# Altium integrated library NSC Simple PLD.IntLib: 508 symbols (part 8 of 10)
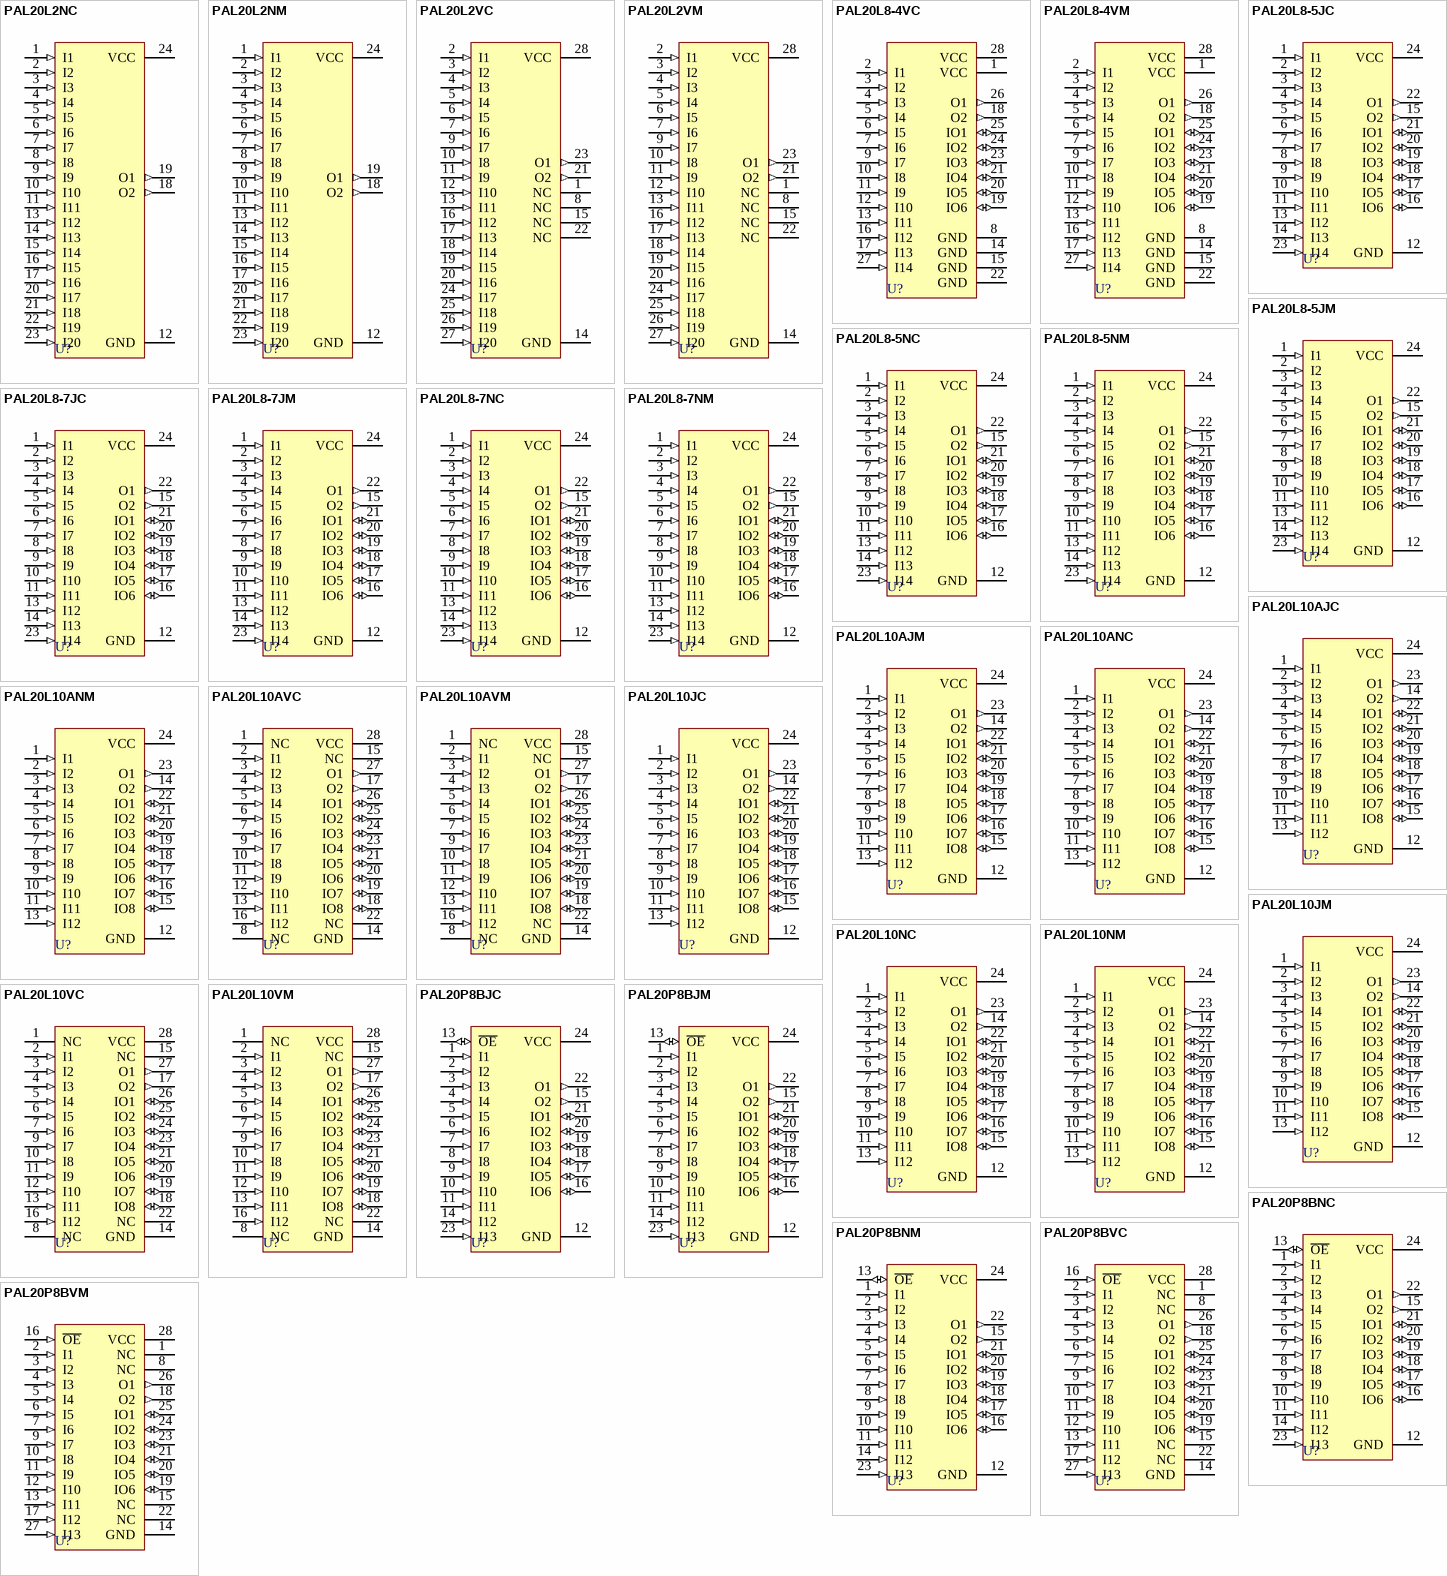
[diagram p21: symbols PAL20L2NC to PAL20P8BVM]

## PAL20L2VC
designator U?
28-Pin Small PAL; Published: 15-Apr-2002; LatestRevisionDate: 13-Apr-2006; LatestRevisionNote: IPC-7351 Footprint Added.; DatasheetVersion: 1990; PackageVersion: 2000; PackageReference: V28A; Publisher: Altium Limited; PackageDescription: 28-Pin Leaded Chip Carrier 1.27 mm Pitch; Code_IPC: PLCC-28; ComponentLink1Description: Manufacturer Link; ComponentLink1URL: http://www.national.com/
footprint V28A_N (Leaded Chip Carrier, 28-Leads, Body 11.5x11.5mm, Pitch 1.27mm, IPC Medium Density)
footprint V28A_L (Leaded Chip Carrier, 28-Leads, Body 11.5x11.5mm, Pitch 1.27mm, IPC High Density)
footprint V28A_M (Leaded Chip Carrier, 28-Leads, Body 11.5x11.5mm, Pitch 1.27mm, IPC Low Density)
3D model PAL20L2-V28A (28-Pin Leaded Chip Carrier 1.27 mm Pitch)
pins: 1 NC, 2 I1 (in), 3 I2 (in), 4 I3 (in), 5 I4 (in), 6 I5 (in), 7 I6 (in), 8 NC, 9 I7 (in), 10 I8 (in), 11 I9 (in), 12 I10 (in), 13 I11 (in), 14 GND (power), 15 NC, 16 I12 (in), 17 I13 (in), 18 I14 (in), 19 I15 (in), 20 I16 (in), 21 O2 (out), 22 NC, 23 O1 (out), 24 I17 (in), 25 I18 (in), 26 I19 (in), 27 I20 (in), 28 VCC (power)

## PAL20L2VM
designator U?
28-Pin Small PAL; Published: 15-Apr-2002; LatestRevisionDate: 13-Apr-2006; LatestRevisionNote: IPC-7351 Footprint Added.; DatasheetVersion: 1990; PackageVersion: 2000; PackageReference: V28A; Publisher: Altium Limited; PackageDescription: 28-Pin Leaded Chip Carrier 1.27 mm Pitch; Code_IPC: PLCC-28; ComponentLink1Description: Manufacturer Link; ComponentLink1URL: http://www.national.com/
footprint V28A_N (Leaded Chip Carrier, 28-Leads, Body 11.5x11.5mm, Pitch 1.27mm, IPC Medium Density)
footprint V28A_L (Leaded Chip Carrier, 28-Leads, Body 11.5x11.5mm, Pitch 1.27mm, IPC High Density)
footprint V28A_M (Leaded Chip Carrier, 28-Leads, Body 11.5x11.5mm, Pitch 1.27mm, IPC Low Density)
3D model PAL20L2-V28A (28-Pin Leaded Chip Carrier 1.27 mm Pitch)
pins: 1 NC, 2 I1 (in), 3 I2 (in), 4 I3 (in), 5 I4 (in), 6 I5 (in), 7 I6 (in), 8 NC, 9 I7 (in), 10 I8 (in), 11 I9 (in), 12 I10 (in), 13 I11 (in), 14 GND (power), 15 NC, 16 I12 (in), 17 I13 (in), 18 I14 (in), 19 I15 (in), 20 I16 (in), 21 O2 (out), 22 NC, 23 O1 (out), 24 I17 (in), 25 I18 (in), 26 I19 (in), 27 I20 (in), 28 VCC (power)

## PAL20L8-4VC
designator U?
28-Pin Medium PAL; Published: 15-Apr-2002; LatestRevisionDate: 13-Apr-2006; LatestRevisionNote: IPC-7351 Footprint Added.; DatasheetVersion: 1991; PackageVersion: 2000; PackageReference: V28A; Publisher: Altium Limited; PackageDescription: 28-Pin Leaded Chip Carrier 1.27 mm Pitch; Code_IPC: PLCC-28; ComponentLink1Description: Manufacturer Link; ComponentLink1URL: http://www.national.com/
footprint V28A_N (Leaded Chip Carrier, 28-Leads, Body 11.5x11.5mm, Pitch 1.27mm, IPC Medium Density)
footprint V28A_L (Leaded Chip Carrier, 28-Leads, Body 11.5x11.5mm, Pitch 1.27mm, IPC High Density)
footprint V28A_M (Leaded Chip Carrier, 28-Leads, Body 11.5x11.5mm, Pitch 1.27mm, IPC Low Density)
3D model PAL20L8-4-V28A (28-Pin Leaded Chip Carrier 1.27 mm Pitch)
pins: 1 VCC (power), 2 I1 (in), 3 I2 (in), 4 I3 (in), 5 I4 (in), 6 I5 (in), 7 I6 (in), 8 GND (power), 9 I7 (in), 10 I8 (in), 11 I9 (in), 12 I10 (in), 13 I11 (in), 14 GND (power), 15 GND (power), 16 I12 (in), 17 I13 (in), 18 O2 (out), 19 IO6 (io), 20 IO5 (io), 21 IO4 (io), 22 GND (power), 23 IO3 (io), 24 IO2 (io), 25 IO1 (io), 26 O1 (out), 27 I14 (in), 28 VCC (power)

## PAL20L8-4VM
designator U?
28-Pin Medium PAL; Published: 15-Apr-2002; LatestRevisionDate: 13-Apr-2006; LatestRevisionNote: IPC-7351 Footprint Added.; DatasheetVersion: 1991; PackageVersion: 2000; PackageReference: V28A; Publisher: Altium Limited; PackageDescription: 28-Pin Leaded Chip Carrier 1.27 mm Pitch; Code_IPC: PLCC-28; ComponentLink1Description: Manufacturer Link; ComponentLink1URL: http://www.national.com/
footprint V28A_N (Leaded Chip Carrier, 28-Leads, Body 11.5x11.5mm, Pitch 1.27mm, IPC Medium Density)
footprint V28A_L (Leaded Chip Carrier, 28-Leads, Body 11.5x11.5mm, Pitch 1.27mm, IPC High Density)
footprint V28A_M (Leaded Chip Carrier, 28-Leads, Body 11.5x11.5mm, Pitch 1.27mm, IPC Low Density)
3D model PAL20L8-4-V28A (28-Pin Leaded Chip Carrier 1.27 mm Pitch)
pins: 1 VCC (power), 2 I1 (in), 3 I2 (in), 4 I3 (in), 5 I4 (in), 6 I5 (in), 7 I6 (in), 8 GND (power), 9 I7 (in), 10 I8 (in), 11 I9 (in), 12 I10 (in), 13 I11 (in), 14 GND (power), 15 GND (power), 16 I12 (in), 17 I13 (in), 18 O2 (out), 19 IO6 (io), 20 IO5 (io), 21 IO4 (io), 22 GND (power), 23 IO3 (io), 24 IO2 (io), 25 IO1 (io), 26 O1 (out), 27 I14 (in), 28 VCC (power)

## PAL20L8-5JC
designator U?
24-Pin Medium PAL; Published: 15-Apr-2002; LatestRevisionDate: 04-Mar-2005; LatestRevisionNote: Stylized 3D Model Added.; DatasheetVersion: 1991; PackageVersion: 2000; PackageReference: J24F; Publisher: Altium Limited; PackageDescription: DIP; 24 Leads; Row Spacing 7.62 mm; Pitch 2.54 mm; Code_JEDEC: MS-001-AF; ComponentLink1Description: Manufacturer Link; ComponentLink1URL: http://www.national.com/
footprint J24F (DIP; 24 Leads; Row Spacing 7.62 mm; Pitch 2.54 mm)
3D model J24F (DIP; 24 Leads; Row Spacing 7.62 mm; Pitch 2.54 mm)
pins: 1 I1 (in), 2 I2 (in), 3 I3 (in), 4 I4 (in), 5 I5 (in), 6 I6 (in), 7 I7 (in), 8 I8 (in), 9 I9 (in), 10 I10 (in), 11 I11 (in), 12 GND (power), 13 I12 (in), 14 I13 (in), 15 O2 (out), 16 IO6 (io), 17 IO5 (io), 18 IO4 (io), 19 IO3 (io), 20 IO2 (io), 21 IO1 (io), 22 O1 (out), 23 I14 (in), 24 VCC (power)

## PAL20L8-5JM
designator U?
24-Pin Medium PAL; Published: 15-Apr-2002; LatestRevisionDate: 04-Mar-2005; LatestRevisionNote: Stylized 3D Model Added.; DatasheetVersion: 1991; PackageVersion: 2000; PackageReference: J24F; Publisher: Altium Limited; PackageDescription: DIP; 24 Leads; Row Spacing 7.62 mm; Pitch 2.54 mm; Code_JEDEC: MS-001-AF; ComponentLink1Description: Manufacturer Link; ComponentLink1URL: http://www.national.com/
footprint J24F (DIP; 24 Leads; Row Spacing 7.62 mm; Pitch 2.54 mm)
3D model J24F (DIP; 24 Leads; Row Spacing 7.62 mm; Pitch 2.54 mm)
pins: 1 I1 (in), 2 I2 (in), 3 I3 (in), 4 I4 (in), 5 I5 (in), 6 I6 (in), 7 I7 (in), 8 I8 (in), 9 I9 (in), 10 I10 (in), 11 I11 (in), 12 GND (power), 13 I12 (in), 14 I13 (in), 15 O2 (out), 16 IO6 (io), 17 IO5 (io), 18 IO4 (io), 19 IO3 (io), 20 IO2 (io), 21 IO1 (io), 22 O1 (out), 23 I14 (in), 24 VCC (power)

## PAL20L8-5NC
designator U?
24-Pin Medium PAL; Published: 15-Apr-2002; LatestRevisionDate: 04-Mar-2005; LatestRevisionNote: Stylized 3D Model Added.; DatasheetVersion: 1991; PackageVersion: 2000; PackageReference: N24C; Publisher: Altium Limited; PackageDescription: DIP; 24 Leads; Row Spacing 7.62 mm; Pitch 2.54 mm; Code_JEDEC: MS-001-AF; ComponentLink1Description: Manufacturer Link; ComponentLink1URL: http://www.national.com/
footprint N24C (DIP; 24 Leads; Row Spacing 7.62 mm; Pitch 2.54 mm)
3D model J24F (DIP; 24 Leads; Row Spacing 7.62 mm; Pitch 2.54 mm)
pins: 1 I1 (in), 2 I2 (in), 3 I3 (in), 4 I4 (in), 5 I5 (in), 6 I6 (in), 7 I7 (in), 8 I8 (in), 9 I9 (in), 10 I10 (in), 11 I11 (in), 12 GND (power), 13 I12 (in), 14 I13 (in), 15 O2 (out), 16 IO6 (io), 17 IO5 (io), 18 IO4 (io), 19 IO3 (io), 20 IO2 (io), 21 IO1 (io), 22 O1 (out), 23 I14 (in), 24 VCC (power)

## PAL20L8-5NM
designator U?
24-Pin Medium PAL; Published: 15-Apr-2002; LatestRevisionDate: 04-Mar-2005; LatestRevisionNote: Stylized 3D Model Added.; DatasheetVersion: 1991; PackageVersion: 2000; PackageReference: N24C; Publisher: Altium Limited; PackageDescription: DIP; 24 Leads; Row Spacing 7.62 mm; Pitch 2.54 mm; Code_JEDEC: MS-001-AF; ComponentLink1Description: Manufacturer Link; ComponentLink1URL: http://www.national.com/
footprint N24C (DIP; 24 Leads; Row Spacing 7.62 mm; Pitch 2.54 mm)
3D model J24F (DIP; 24 Leads; Row Spacing 7.62 mm; Pitch 2.54 mm)
pins: 1 I1 (in), 2 I2 (in), 3 I3 (in), 4 I4 (in), 5 I5 (in), 6 I6 (in), 7 I7 (in), 8 I8 (in), 9 I9 (in), 10 I10 (in), 11 I11 (in), 12 GND (power), 13 I12 (in), 14 I13 (in), 15 O2 (out), 16 IO6 (io), 17 IO5 (io), 18 IO4 (io), 19 IO3 (io), 20 IO2 (io), 21 IO1 (io), 22 O1 (out), 23 I14 (in), 24 VCC (power)

## PAL20L8-7JC
designator U?
24-Pin Medium PAL; Published: 15-Apr-2002; LatestRevisionDate: 04-Mar-2005; LatestRevisionNote: Stylized 3D Model Added.; DatasheetVersion: 1991; PackageVersion: 2000; PackageReference: J24F; Publisher: Altium Limited; PackageDescription: DIP; 24 Leads; Row Spacing 7.62 mm; Pitch 2.54 mm; Code_JEDEC: MS-001-AF; ComponentLink1Description: Manufacturer Link; ComponentLink1URL: http://www.national.com/
footprint J24F (DIP; 24 Leads; Row Spacing 7.62 mm; Pitch 2.54 mm)
3D model J24F (DIP; 24 Leads; Row Spacing 7.62 mm; Pitch 2.54 mm)
pins: 1 I1 (in), 2 I2 (in), 3 I3 (in), 4 I4 (in), 5 I5 (in), 6 I6 (in), 7 I7 (in), 8 I8 (in), 9 I9 (in), 10 I10 (in), 11 I11 (in), 12 GND (power), 13 I12 (in), 14 I13 (in), 15 O2 (out), 16 IO6 (io), 17 IO5 (io), 18 IO4 (io), 19 IO3 (io), 20 IO2 (io), 21 IO1 (io), 22 O1 (out), 23 I14 (in), 24 VCC (power)

## PAL20L8-7JM
designator U?
24-Pin Medium PAL; Published: 15-Apr-2002; LatestRevisionDate: 04-Mar-2005; LatestRevisionNote: Stylized 3D Model Added.; DatasheetVersion: 1991; PackageVersion: 2000; PackageReference: J24F; Publisher: Altium Limited; PackageDescription: DIP; 24 Leads; Row Spacing 7.62 mm; Pitch 2.54 mm; Code_JEDEC: MS-001-AF; ComponentLink1Description: Manufacturer Link; ComponentLink1URL: http://www.national.com/
footprint J24F (DIP; 24 Leads; Row Spacing 7.62 mm; Pitch 2.54 mm)
3D model J24F (DIP; 24 Leads; Row Spacing 7.62 mm; Pitch 2.54 mm)
pins: 1 I1 (in), 2 I2 (in), 3 I3 (in), 4 I4 (in), 5 I5 (in), 6 I6 (in), 7 I7 (in), 8 I8 (in), 9 I9 (in), 10 I10 (in), 11 I11 (in), 12 GND (power), 13 I12 (in), 14 I13 (in), 15 O2 (out), 16 IO6 (io), 17 IO5 (io), 18 IO4 (io), 19 IO3 (io), 20 IO2 (io), 21 IO1 (io), 22 O1 (out), 23 I14 (in), 24 VCC (power)

## PAL20L8-7NC
designator U?
24-Pin Medium PAL; Published: 15-Apr-2002; LatestRevisionDate: 04-Mar-2005; LatestRevisionNote: Stylized 3D Model Added.; DatasheetVersion: 1991; PackageVersion: 2000; PackageReference: N24C; Publisher: Altium Limited; PackageDescription: DIP; 24 Leads; Row Spacing 7.62 mm; Pitch 2.54 mm; Code_JEDEC: MS-001-AF; ComponentLink1Description: Manufacturer Link; ComponentLink1URL: http://www.national.com/
footprint N24C (DIP; 24 Leads; Row Spacing 7.62 mm; Pitch 2.54 mm)
3D model J24F (DIP; 24 Leads; Row Spacing 7.62 mm; Pitch 2.54 mm)
pins: 1 I1 (in), 2 I2 (in), 3 I3 (in), 4 I4 (in), 5 I5 (in), 6 I6 (in), 7 I7 (in), 8 I8 (in), 9 I9 (in), 10 I10 (in), 11 I11 (in), 12 GND (power), 13 I12 (in), 14 I13 (in), 15 O2 (out), 16 IO6 (io), 17 IO5 (io), 18 IO4 (io), 19 IO3 (io), 20 IO2 (io), 21 IO1 (io), 22 O1 (out), 23 I14 (in), 24 VCC (power)

## PAL20L8-7NM
designator U?
24-Pin Medium PAL; Published: 15-Apr-2002; LatestRevisionDate: 04-Mar-2005; LatestRevisionNote: Stylized 3D Model Added.; DatasheetVersion: 1991; PackageVersion: 2000; PackageReference: N24C; Publisher: Altium Limited; PackageDescription: DIP; 24 Leads; Row Spacing 7.62 mm; Pitch 2.54 mm; Code_JEDEC: MS-001-AF; ComponentLink1Description: Manufacturer Link; ComponentLink1URL: http://www.national.com/
footprint N24C (DIP; 24 Leads; Row Spacing 7.62 mm; Pitch 2.54 mm)
3D model J24F (DIP; 24 Leads; Row Spacing 7.62 mm; Pitch 2.54 mm)
pins: 1 I1 (in), 2 I2 (in), 3 I3 (in), 4 I4 (in), 5 I5 (in), 6 I6 (in), 7 I7 (in), 8 I8 (in), 9 I9 (in), 10 I10 (in), 11 I11 (in), 12 GND (power), 13 I12 (in), 14 I13 (in), 15 O2 (out), 16 IO6 (io), 17 IO5 (io), 18 IO4 (io), 19 IO3 (io), 20 IO2 (io), 21 IO1 (io), 22 O1 (out), 23 I14 (in), 24 VCC (power)

## PAL20L10AJC
designator U?
24-Pin Exclusive-OR PAL; Published: 15-Apr-2002; LatestRevisionDate: 04-Mar-2005; LatestRevisionNote: Stylized 3D Model Added.; DatasheetVersion: 1990; PackageVersion: 2000; PackageReference: J24F; Publisher: Altium Limited; PackageDescription: DIP; 24 Leads; Row Spacing 7.62 mm; Pitch 2.54 mm; Code_JEDEC: MS-001-AF; ComponentLink1Description: Manufacturer Link; ComponentLink1URL: http://www.national.com/
footprint J24F (DIP; 24 Leads; Row Spacing 7.62 mm; Pitch 2.54 mm)
3D model J24F (DIP; 24 Leads; Row Spacing 7.62 mm; Pitch 2.54 mm)
pins: 1 I1 (in), 2 I2 (in), 3 I3 (in), 4 I4 (in), 5 I5 (in), 6 I6 (in), 7 I7 (in), 8 I8 (in), 9 I9 (in), 10 I10 (in), 11 I11 (in), 12 GND (power), 13 I12 (in), 14 O2 (out), 15 IO8 (io), 16 IO7 (io), 17 IO6 (io), 18 IO5 (io), 19 IO4 (io), 20 IO3 (io), 21 IO2 (io), 22 IO1 (io), 23 O1 (out), 24 VCC (power)

## PAL20L10AJM
designator U?
24-Pin Exclusive-OR PAL; Published: 15-Apr-2002; LatestRevisionDate: 04-Mar-2005; LatestRevisionNote: Stylized 3D Model Added.; DatasheetVersion: 1990; PackageVersion: 2000; PackageReference: J24F; Publisher: Altium Limited; PackageDescription: DIP; 24 Leads; Row Spacing 7.62 mm; Pitch 2.54 mm; Code_JEDEC: MS-001-AF; ComponentLink1Description: Manufacturer Link; ComponentLink1URL: http://www.national.com/
footprint J24F (DIP; 24 Leads; Row Spacing 7.62 mm; Pitch 2.54 mm)
3D model J24F (DIP; 24 Leads; Row Spacing 7.62 mm; Pitch 2.54 mm)
pins: 1 I1 (in), 2 I2 (in), 3 I3 (in), 4 I4 (in), 5 I5 (in), 6 I6 (in), 7 I7 (in), 8 I8 (in), 9 I9 (in), 10 I10 (in), 11 I11 (in), 12 GND (power), 13 I12 (in), 14 O2 (out), 15 IO8 (io), 16 IO7 (io), 17 IO6 (io), 18 IO5 (io), 19 IO4 (io), 20 IO3 (io), 21 IO2 (io), 22 IO1 (io), 23 O1 (out), 24 VCC (power)

## PAL20L10ANC
designator U?
24-Pin Exclusive-OR PAL; Published: 15-Apr-2002; LatestRevisionDate: 04-Mar-2005; LatestRevisionNote: Stylized 3D Model Added.; DatasheetVersion: 1990; PackageVersion: 2000; PackageReference: N24C; Publisher: Altium Limited; PackageDescription: DIP; 24 Leads; Row Spacing 7.62 mm; Pitch 2.54 mm; Code_JEDEC: MS-001-AF; ComponentLink1Description: Manufacturer Link; ComponentLink1URL: http://www.national.com/
footprint N24C (DIP; 24 Leads; Row Spacing 7.62 mm; Pitch 2.54 mm)
3D model J24F (DIP; 24 Leads; Row Spacing 7.62 mm; Pitch 2.54 mm)
pins: 1 I1 (in), 2 I2 (in), 3 I3 (in), 4 I4 (in), 5 I5 (in), 6 I6 (in), 7 I7 (in), 8 I8 (in), 9 I9 (in), 10 I10 (in), 11 I11 (in), 12 GND (power), 13 I12 (in), 14 O2 (out), 15 IO8 (io), 16 IO7 (io), 17 IO6 (io), 18 IO5 (io), 19 IO4 (io), 20 IO3 (io), 21 IO2 (io), 22 IO1 (io), 23 O1 (out), 24 VCC (power)

## PAL20L10ANM
designator U?
24-Pin Exclusive-OR PAL; Published: 15-Apr-2002; LatestRevisionDate: 04-Mar-2005; LatestRevisionNote: Stylized 3D Model Added.; DatasheetVersion: 1990; PackageVersion: 2000; PackageReference: N24C; Publisher: Altium Limited; PackageDescription: DIP; 24 Leads; Row Spacing 7.62 mm; Pitch 2.54 mm; Code_JEDEC: MS-001-AF; ComponentLink1Description: Manufacturer Link; ComponentLink1URL: http://www.national.com/
footprint N24C (DIP; 24 Leads; Row Spacing 7.62 mm; Pitch 2.54 mm)
3D model J24F (DIP; 24 Leads; Row Spacing 7.62 mm; Pitch 2.54 mm)
pins: 1 I1 (in), 2 I2 (in), 3 I3 (in), 4 I4 (in), 5 I5 (in), 6 I6 (in), 7 I7 (in), 8 I8 (in), 9 I9 (in), 10 I10 (in), 11 I11 (in), 12 GND (power), 13 I12 (in), 14 O2 (out), 15 IO8 (io), 16 IO7 (io), 17 IO6 (io), 18 IO5 (io), 19 IO4 (io), 20 IO3 (io), 21 IO2 (io), 22 IO1 (io), 23 O1 (out), 24 VCC (power)

## PAL20L10AVC
designator U?
28-Pin Exclusive-OR PAL; Published: 15-Apr-2002; LatestRevisionDate: 13-Apr-2006; LatestRevisionNote: IPC-7351 Footprint Added.; DatasheetVersion: 1990; PackageVersion: 2000; PackageReference: V28A; Publisher: Altium Limited; PackageDescription: 28-Pin Leaded Chip Carrier 1.27 mm Pitch; Code_IPC: PLCC-28; ComponentLink1Description: Manufacturer Link; ComponentLink1URL: http://www.national.com/
footprint V28A_N (Leaded Chip Carrier, 28-Leads, Body 11.5x11.5mm, Pitch 1.27mm, IPC Medium Density)
footprint V28A_L (Leaded Chip Carrier, 28-Leads, Body 11.5x11.5mm, Pitch 1.27mm, IPC High Density)
footprint V28A_M (Leaded Chip Carrier, 28-Leads, Body 11.5x11.5mm, Pitch 1.27mm, IPC Low Density)
3D model PAL20L10A-V28A (28-Pin Leaded Chip Carrier 1.27 mm Pitch)
pins: 1 NC, 2 I1 (in), 3 I2 (in), 4 I3 (in), 5 I4 (in), 6 I5 (in), 7 I6 (in), 8 NC, 9 I7 (in), 10 I8 (in), 11 I9 (in), 12 I10 (in), 13 I11 (in), 14 GND (power), 15 NC, 16 I12 (in), 17 O2 (out), 18 IO8 (io), 19 IO7 (io), 20 IO6 (io), 21 IO5 (io), 22 NC, 23 IO4 (io), 24 IO3 (io), 25 IO2 (io), 26 IO1 (io), 27 O1 (out), 28 VCC (power)

## PAL20L10AVM
designator U?
28-Pin Exclusive-OR PAL; Published: 15-Apr-2002; LatestRevisionDate: 13-Apr-2006; LatestRevisionNote: IPC-7351 Footprint Added.; DatasheetVersion: 1990; PackageVersion: 2000; PackageReference: V28A; Publisher: Altium Limited; PackageDescription: 28-Pin Leaded Chip Carrier 1.27 mm Pitch; Code_IPC: PLCC-28; ComponentLink1Description: Manufacturer Link; ComponentLink1URL: http://www.national.com/
footprint V28A_N (Leaded Chip Carrier, 28-Leads, Body 11.5x11.5mm, Pitch 1.27mm, IPC Medium Density)
footprint V28A_L (Leaded Chip Carrier, 28-Leads, Body 11.5x11.5mm, Pitch 1.27mm, IPC High Density)
footprint V28A_M (Leaded Chip Carrier, 28-Leads, Body 11.5x11.5mm, Pitch 1.27mm, IPC Low Density)
3D model PAL20L10A-V28A (28-Pin Leaded Chip Carrier 1.27 mm Pitch)
pins: 1 NC, 2 I1 (in), 3 I2 (in), 4 I3 (in), 5 I4 (in), 6 I5 (in), 7 I6 (in), 8 NC, 9 I7 (in), 10 I8 (in), 11 I9 (in), 12 I10 (in), 13 I11 (in), 14 GND (power), 15 NC, 16 I12 (in), 17 O2 (out), 18 IO8 (io), 19 IO7 (io), 20 IO6 (io), 21 IO5 (io), 22 NC, 23 IO4 (io), 24 IO3 (io), 25 IO2 (io), 26 IO1 (io), 27 O1 (out), 28 VCC (power)

## PAL20L10JC
designator U?
24-Pin Exclusive-OR PAL; Published: 15-Apr-2002; LatestRevisionDate: 04-Mar-2005; LatestRevisionNote: Stylized 3D Model Added.; DatasheetVersion: 1990; PackageVersion: 2000; PackageReference: J24F; Publisher: Altium Limited; PackageDescription: DIP; 24 Leads; Row Spacing 7.62 mm; Pitch 2.54 mm; Code_JEDEC: MS-001-AF; ComponentLink1Description: Manufacturer Link; ComponentLink1URL: http://www.national.com/
footprint J24F (DIP; 24 Leads; Row Spacing 7.62 mm; Pitch 2.54 mm)
3D model J24F (DIP; 24 Leads; Row Spacing 7.62 mm; Pitch 2.54 mm)
pins: 1 I1 (in), 2 I2 (in), 3 I3 (in), 4 I4 (in), 5 I5 (in), 6 I6 (in), 7 I7 (in), 8 I8 (in), 9 I9 (in), 10 I10 (in), 11 I11 (in), 12 GND (power), 13 I12 (in), 14 O2 (out), 15 IO8 (io), 16 IO7 (io), 17 IO6 (io), 18 IO5 (io), 19 IO4 (io), 20 IO3 (io), 21 IO2 (io), 22 IO1 (io), 23 O1 (out), 24 VCC (power)

## PAL20L10JM
designator U?
24-Pin Exclusive-OR PAL; Published: 15-Apr-2002; LatestRevisionDate: 04-Mar-2005; LatestRevisionNote: Stylized 3D Model Added.; DatasheetVersion: 1990; PackageVersion: 2000; PackageReference: J24F; Publisher: Altium Limited; PackageDescription: DIP; 24 Leads; Row Spacing 7.62 mm; Pitch 2.54 mm; Code_JEDEC: MS-001-AF; ComponentLink1Description: Manufacturer Link; ComponentLink1URL: http://www.national.com/
footprint J24F (DIP; 24 Leads; Row Spacing 7.62 mm; Pitch 2.54 mm)
3D model J24F (DIP; 24 Leads; Row Spacing 7.62 mm; Pitch 2.54 mm)
pins: 1 I1 (in), 2 I2 (in), 3 I3 (in), 4 I4 (in), 5 I5 (in), 6 I6 (in), 7 I7 (in), 8 I8 (in), 9 I9 (in), 10 I10 (in), 11 I11 (in), 12 GND (power), 13 I12 (in), 14 O2 (out), 15 IO8 (io), 16 IO7 (io), 17 IO6 (io), 18 IO5 (io), 19 IO4 (io), 20 IO3 (io), 21 IO2 (io), 22 IO1 (io), 23 O1 (out), 24 VCC (power)

## PAL20L10NC
designator U?
24-Pin Exclusive-OR PAL; Published: 15-Apr-2002; LatestRevisionDate: 04-Mar-2005; LatestRevisionNote: Stylized 3D Model Added.; DatasheetVersion: 1990; PackageVersion: 2000; PackageReference: N24C; Publisher: Altium Limited; PackageDescription: DIP; 24 Leads; Row Spacing 7.62 mm; Pitch 2.54 mm; Code_JEDEC: MS-001-AF; ComponentLink1Description: Manufacturer Link; ComponentLink1URL: http://www.national.com/
footprint N24C (DIP; 24 Leads; Row Spacing 7.62 mm; Pitch 2.54 mm)
3D model J24F (DIP; 24 Leads; Row Spacing 7.62 mm; Pitch 2.54 mm)
pins: 1 I1 (in), 2 I2 (in), 3 I3 (in), 4 I4 (in), 5 I5 (in), 6 I6 (in), 7 I7 (in), 8 I8 (in), 9 I9 (in), 10 I10 (in), 11 I11 (in), 12 GND (power), 13 I12 (in), 14 O2 (out), 15 IO8 (io), 16 IO7 (io), 17 IO6 (io), 18 IO5 (io), 19 IO4 (io), 20 IO3 (io), 21 IO2 (io), 22 IO1 (io), 23 O1 (out), 24 VCC (power)

## PAL20L10NM
designator U?
24-Pin Exclusive-OR PAL; Published: 15-Apr-2002; LatestRevisionDate: 04-Mar-2005; LatestRevisionNote: Stylized 3D Model Added.; DatasheetVersion: 1990; PackageVersion: 2000; PackageReference: N24C; Publisher: Altium Limited; PackageDescription: DIP; 24 Leads; Row Spacing 7.62 mm; Pitch 2.54 mm; Code_JEDEC: MS-001-AF; ComponentLink1Description: Manufacturer Link; ComponentLink1URL: http://www.national.com/
footprint N24C (DIP; 24 Leads; Row Spacing 7.62 mm; Pitch 2.54 mm)
3D model J24F (DIP; 24 Leads; Row Spacing 7.62 mm; Pitch 2.54 mm)
pins: 1 I1 (in), 2 I2 (in), 3 I3 (in), 4 I4 (in), 5 I5 (in), 6 I6 (in), 7 I7 (in), 8 I8 (in), 9 I9 (in), 10 I10 (in), 11 I11 (in), 12 GND (power), 13 I12 (in), 14 O2 (out), 15 IO8 (io), 16 IO7 (io), 17 IO6 (io), 18 IO5 (io), 19 IO4 (io), 20 IO3 (io), 21 IO2 (io), 22 IO1 (io), 23 O1 (out), 24 VCC (power)

## PAL20L10VC
designator U?
28-Pin Exclusive-OR PAL; Published: 15-Apr-2002; LatestRevisionDate: 13-Apr-2006; LatestRevisionNote: IPC-7351 Footprint Added.; DatasheetVersion: 1990; PackageVersion: 2000; PackageReference: V28A; Publisher: Altium Limited; PackageDescription: 28-Pin Leaded Chip Carrier 1.27 mm Pitch; Code_IPC: PLCC-28; ComponentLink1Description: Manufacturer Link; ComponentLink1URL: http://www.national.com/
footprint V28A_N (Leaded Chip Carrier, 28-Leads, Body 11.5x11.5mm, Pitch 1.27mm, IPC Medium Density)
footprint V28A_L (Leaded Chip Carrier, 28-Leads, Body 11.5x11.5mm, Pitch 1.27mm, IPC High Density)
footprint V28A_M (Leaded Chip Carrier, 28-Leads, Body 11.5x11.5mm, Pitch 1.27mm, IPC Low Density)
3D model PAL20L10-V28A (28-Pin Leaded Chip Carrier 1.27 mm Pitch)
pins: 1 NC, 2 I1 (in), 3 I2 (in), 4 I3 (in), 5 I4 (in), 6 I5 (in), 7 I6 (in), 8 NC, 9 I7 (in), 10 I8 (in), 11 I9 (in), 12 I10 (in), 13 I11 (in), 14 GND (power), 15 NC, 16 I12 (in), 17 O2 (out), 18 IO8 (io), 19 IO7 (io), 20 IO6 (io), 21 IO5 (io), 22 NC, 23 IO4 (io), 24 IO3 (io), 25 IO2 (io), 26 IO1 (io), 27 O1 (out), 28 VCC (power)

## PAL20L10VM
designator U?
28-Pin Exclusive-OR PAL; Published: 15-Apr-2002; LatestRevisionDate: 13-Apr-2006; LatestRevisionNote: IPC-7351 Footprint Added.; DatasheetVersion: 1990; PackageVersion: 2000; PackageReference: V28A; Publisher: Altium Limited; PackageDescription: 28-Pin Leaded Chip Carrier 1.27 mm Pitch; Code_IPC: PLCC-28; ComponentLink1Description: Manufacturer Link; ComponentLink1URL: http://www.national.com/
footprint V28A_N (Leaded Chip Carrier, 28-Leads, Body 11.5x11.5mm, Pitch 1.27mm, IPC Medium Density)
footprint V28A_L (Leaded Chip Carrier, 28-Leads, Body 11.5x11.5mm, Pitch 1.27mm, IPC High Density)
footprint V28A_M (Leaded Chip Carrier, 28-Leads, Body 11.5x11.5mm, Pitch 1.27mm, IPC Low Density)
3D model PAL20L10-V28A (28-Pin Leaded Chip Carrier 1.27 mm Pitch)
pins: 1 NC, 2 I1 (in), 3 I2 (in), 4 I3 (in), 5 I4 (in), 6 I5 (in), 7 I6 (in), 8 NC, 9 I7 (in), 10 I8 (in), 11 I9 (in), 12 I10 (in), 13 I11 (in), 14 GND (power), 15 NC, 16 I12 (in), 17 O2 (out), 18 IO8 (io), 19 IO7 (io), 20 IO6 (io), 21 IO5 (io), 22 NC, 23 IO4 (io), 24 IO3 (io), 25 IO2 (io), 26 IO1 (io), 27 O1 (out), 28 VCC (power)

## PAL20P8BJC
designator U?
24-Pin Polarity PAL; Published: 15-Apr-2002; LatestRevisionDate: 04-Mar-2005; LatestRevisionNote: Stylized 3D Model Added.; DatasheetVersion: 1990; PackageVersion: 2000; PackageReference: J24F; Publisher: Altium Limited; PackageDescription: DIP; 24 Leads; Row Spacing 7.62 mm; Pitch 2.54 mm; Code_JEDEC: MS-001-AF; ComponentLink1Description: Manufacturer Link; ComponentLink1URL: http://www.national.com/
footprint J24F (DIP; 24 Leads; Row Spacing 7.62 mm; Pitch 2.54 mm)
3D model J24F (DIP; 24 Leads; Row Spacing 7.62 mm; Pitch 2.54 mm)
pins: 1 I1 (in), 2 I2 (in), 3 I3 (in), 4 I4 (in), 5 I5 (in), 6 I6 (in), 7 I7 (in), 8 I8 (in), 9 I9 (in), 10 I10 (in), 11 I11 (in), 12 GND (power), 13 ~{OE} (io), 14 I12 (in), 15 O2 (out), 16 IO6 (io), 17 IO5 (io), 18 IO4 (io), 19 IO3 (io), 20 IO2 (io), 21 IO1 (io), 22 O1 (out), 23 I13 (in), 24 VCC (power)

## PAL20P8BJM
designator U?
24-Pin Polarity PAL; Published: 15-Apr-2002; LatestRevisionDate: 04-Mar-2005; LatestRevisionNote: Stylized 3D Model Added.; DatasheetVersion: 1990; PackageVersion: 2000; PackageReference: J24F; Publisher: Altium Limited; PackageDescription: DIP; 24 Leads; Row Spacing 7.62 mm; Pitch 2.54 mm; Code_JEDEC: MS-001-AF; ComponentLink1Description: Manufacturer Link; ComponentLink1URL: http://www.national.com/
footprint J24F (DIP; 24 Leads; Row Spacing 7.62 mm; Pitch 2.54 mm)
3D model J24F (DIP; 24 Leads; Row Spacing 7.62 mm; Pitch 2.54 mm)
pins: 1 I1 (in), 2 I2 (in), 3 I3 (in), 4 I4 (in), 5 I5 (in), 6 I6 (in), 7 I7 (in), 8 I8 (in), 9 I9 (in), 10 I10 (in), 11 I11 (in), 12 GND (power), 13 ~{OE} (io), 14 I12 (in), 15 O2 (out), 16 IO6 (io), 17 IO5 (io), 18 IO4 (io), 19 IO3 (io), 20 IO2 (io), 21 IO1 (io), 22 O1 (out), 23 I13 (in), 24 VCC (power)

## PAL20P8BNC
designator U?
24-Pin Polarity PAL; Published: 15-Apr-2002; LatestRevisionDate: 04-Mar-2005; LatestRevisionNote: Stylized 3D Model Added.; DatasheetVersion: 1990; PackageVersion: 2000; PackageReference: N24C; Publisher: Altium Limited; PackageDescription: DIP; 24 Leads; Row Spacing 7.62 mm; Pitch 2.54 mm; Code_JEDEC: MS-001-AF; ComponentLink1Description: Manufacturer Link; ComponentLink1URL: http://www.national.com/
footprint N24C (DIP; 24 Leads; Row Spacing 7.62 mm; Pitch 2.54 mm)
3D model J24F (DIP; 24 Leads; Row Spacing 7.62 mm; Pitch 2.54 mm)
pins: 1 I1 (in), 2 I2 (in), 3 I3 (in), 4 I4 (in), 5 I5 (in), 6 I6 (in), 7 I7 (in), 8 I8 (in), 9 I9 (in), 10 I10 (in), 11 I11 (in), 12 GND (power), 13 ~{OE} (io), 14 I12 (in), 15 O2 (out), 16 IO6 (io), 17 IO5 (io), 18 IO4 (io), 19 IO3 (io), 20 IO2 (io), 21 IO1 (io), 22 O1 (out), 23 I13 (in), 24 VCC (power)

## PAL20P8BNM
designator U?
24-Pin Polarity PAL; Published: 15-Apr-2002; LatestRevisionDate: 04-Mar-2005; LatestRevisionNote: Stylized 3D Model Added.; DatasheetVersion: 1990; PackageVersion: 2000; PackageReference: N24C; Publisher: Altium Limited; PackageDescription: DIP; 24 Leads; Row Spacing 7.62 mm; Pitch 2.54 mm; Code_JEDEC: MS-001-AF; ComponentLink1Description: Manufacturer Link; ComponentLink1URL: http://www.national.com/
footprint N24C (DIP; 24 Leads; Row Spacing 7.62 mm; Pitch 2.54 mm)
3D model J24F (DIP; 24 Leads; Row Spacing 7.62 mm; Pitch 2.54 mm)
pins: 1 I1 (in), 2 I2 (in), 3 I3 (in), 4 I4 (in), 5 I5 (in), 6 I6 (in), 7 I7 (in), 8 I8 (in), 9 I9 (in), 10 I10 (in), 11 I11 (in), 12 GND (power), 13 ~{OE} (io), 14 I12 (in), 15 O2 (out), 16 IO6 (io), 17 IO5 (io), 18 IO4 (io), 19 IO3 (io), 20 IO2 (io), 21 IO1 (io), 22 O1 (out), 23 I13 (in), 24 VCC (power)

## PAL20P8BVC
designator U?
28-Pin Polarity PAL; Published: 15-Apr-2002; LatestRevisionDate: 13-Apr-2006; LatestRevisionNote: IPC-7351 Footprint Added.; DatasheetVersion: 1990; PackageVersion: 2000; PackageReference: V28A; Publisher: Altium Limited; PackageDescription: 28-Pin Leaded Chip Carrier 1.27 mm Pitch; Code_IPC: PLCC-28; ComponentLink1Description: Manufacturer Link; ComponentLink1URL: http://www.national.com/
footprint V28A_N (Leaded Chip Carrier, 28-Leads, Body 11.5x11.5mm, Pitch 1.27mm, IPC Medium Density)
footprint V28A_L (Leaded Chip Carrier, 28-Leads, Body 11.5x11.5mm, Pitch 1.27mm, IPC High Density)
footprint V28A_M (Leaded Chip Carrier, 28-Leads, Body 11.5x11.5mm, Pitch 1.27mm, IPC Low Density)
3D model PAL20P8B-V28A (28-Pin Leaded Chip Carrier 1.27 mm Pitch)
pins: 1 NC, 2 I1 (in), 3 I2 (in), 4 I3 (in), 5 I4 (in), 6 I5 (in), 7 I6 (in), 8 NC, 9 I7 (in), 10 I8 (in), 11 I9 (in), 12 I10 (in), 13 I11 (in), 14 GND (power), 15 NC, 16 ~{OE} (in), 17 I12 (in), 18 O2 (out), 19 IO6 (io), 20 IO5 (io), 21 IO4 (io), 22 NC, 23 IO3 (io), 24 IO2 (io), 25 IO1 (io), 26 O1 (out), 27 I13 (in), 28 VCC (power)

## PAL20P8BVM
designator U?
28-Pin Polarity PAL; Published: 15-Apr-2002; LatestRevisionDate: 13-Apr-2006; LatestRevisionNote: IPC-7351 Footprint Added.; DatasheetVersion: 1990; PackageVersion: 2000; PackageReference: V28A; Publisher: Altium Limited; PackageDescription: 28-Pin Leaded Chip Carrier 1.27 mm Pitch; Code_IPC: PLCC-28; ComponentLink1Description: Manufacturer Link; ComponentLink1URL: http://www.national.com/
footprint V28A_N (Leaded Chip Carrier, 28-Leads, Body 11.5x11.5mm, Pitch 1.27mm, IPC Medium Density)
footprint V28A_L (Leaded Chip Carrier, 28-Leads, Body 11.5x11.5mm, Pitch 1.27mm, IPC High Density)
footprint V28A_M (Leaded Chip Carrier, 28-Leads, Body 11.5x11.5mm, Pitch 1.27mm, IPC Low Density)
3D model PAL20P8B-V28A (28-Pin Leaded Chip Carrier 1.27 mm Pitch)
pins: 1 NC, 2 I1 (in), 3 I2 (in), 4 I3 (in), 5 I4 (in), 6 I5 (in), 7 I6 (in), 8 NC, 9 I7 (in), 10 I8 (in), 11 I9 (in), 12 I10 (in), 13 I11 (in), 14 GND (power), 15 NC, 16 ~{OE} (in), 17 I12 (in), 18 O2 (out), 19 IO6 (io), 20 IO5 (io), 21 IO4 (io), 22 NC, 23 IO3 (io), 24 IO2 (io), 25 IO1 (io), 26 O1 (out), 27 I13 (in), 28 VCC (power)

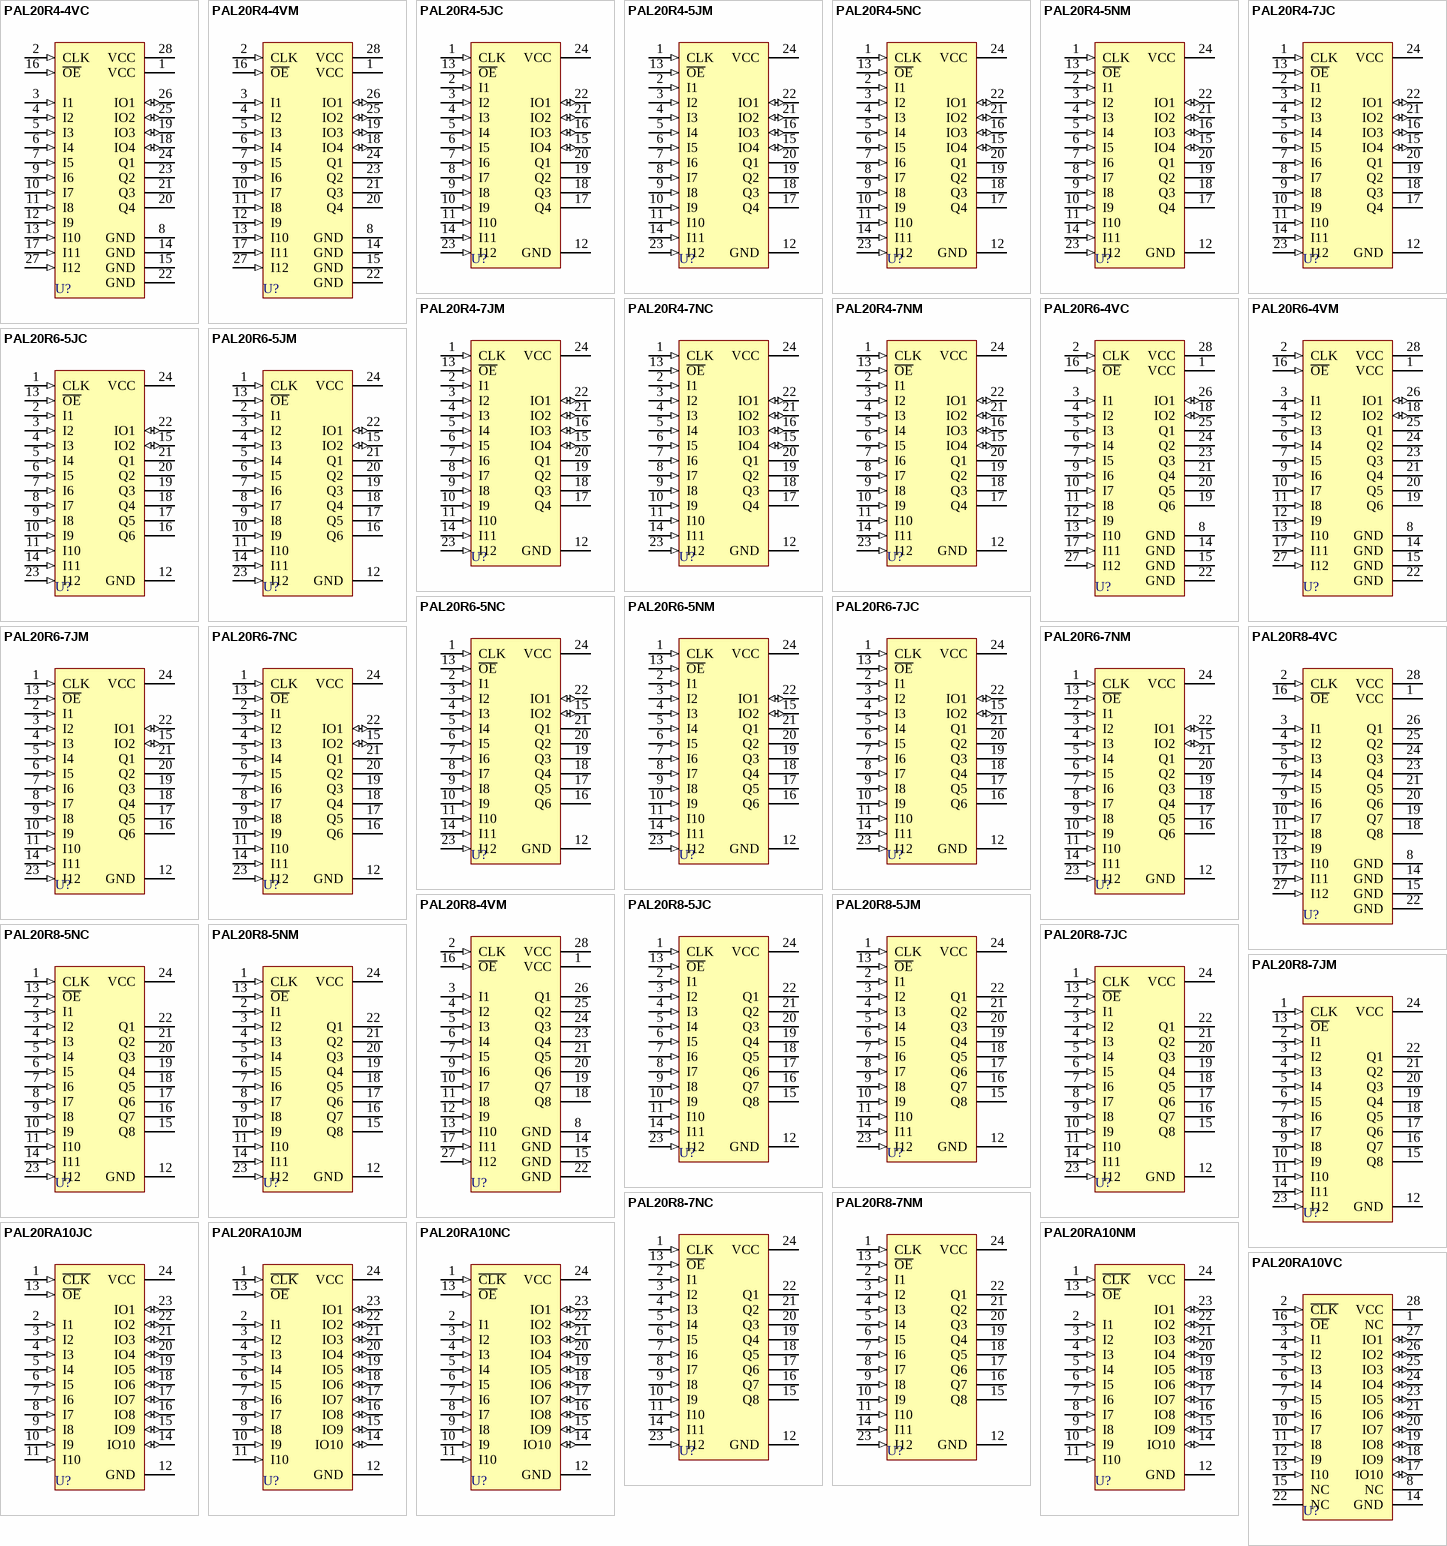
[diagram p12: symbols PAL20R4-4VC to PAL20RA10VC]

## PAL20R4-4VC
designator U?
28-Pin Medium PAL; Published: 15-Apr-2002; LatestRevisionDate: 13-Apr-2006; LatestRevisionNote: IPC-7351 Footprint Added.; DatasheetVersion: 1991; PackageVersion: 2000; PackageReference: V28A; Publisher: Altium Limited; PackageDescription: 28-Pin Leaded Chip Carrier 1.27 mm Pitch; Code_IPC: PLCC-28; ComponentLink1Description: Manufacturer Link; ComponentLink1URL: http://www.national.com/
footprint V28A_N (Leaded Chip Carrier, 28-Leads, Body 11.5x11.5mm, Pitch 1.27mm, IPC Medium Density)
footprint V28A_L (Leaded Chip Carrier, 28-Leads, Body 11.5x11.5mm, Pitch 1.27mm, IPC High Density)
footprint V28A_M (Leaded Chip Carrier, 28-Leads, Body 11.5x11.5mm, Pitch 1.27mm, IPC Low Density)
3D model PAL20R4-4-V28A (28-Pin Leaded Chip Carrier 1.27 mm Pitch)
pins: 1 VCC (power), 2 CLK (in), 3 I1 (in), 4 I2 (in), 5 I3 (in), 6 I4 (in), 7 I5 (in), 8 GND (power), 9 I6 (in), 10 I7 (in), 11 I8 (in), 12 I9 (in), 13 I10 (in), 14 GND (power), 15 GND (power), 16 ~{OE} (in), 17 I11 (in), 18 IO4 (io), 19 IO3 (io), 20 Q4 (hiz), 21 Q3 (hiz), 22 GND (power), 23 Q2 (hiz), 24 Q1 (hiz), 25 IO2 (io), 26 IO1 (io), 27 I12 (in), 28 VCC (power)

## PAL20R4-4VM
designator U?
28-Pin Medium PAL; Published: 15-Apr-2002; LatestRevisionDate: 13-Apr-2006; LatestRevisionNote: IPC-7351 Footprint Added.; DatasheetVersion: 1991; PackageVersion: 2000; PackageReference: V28A; Publisher: Altium Limited; PackageDescription: 28-Pin Leaded Chip Carrier 1.27 mm Pitch; Code_IPC: PLCC-28; ComponentLink1Description: Manufacturer Link; ComponentLink1URL: http://www.national.com/
footprint V28A_N (Leaded Chip Carrier, 28-Leads, Body 11.5x11.5mm, Pitch 1.27mm, IPC Medium Density)
footprint V28A_L (Leaded Chip Carrier, 28-Leads, Body 11.5x11.5mm, Pitch 1.27mm, IPC High Density)
footprint V28A_M (Leaded Chip Carrier, 28-Leads, Body 11.5x11.5mm, Pitch 1.27mm, IPC Low Density)
3D model PAL20R4-4-V28A (28-Pin Leaded Chip Carrier 1.27 mm Pitch)
pins: 1 VCC (power), 2 CLK (in), 3 I1 (in), 4 I2 (in), 5 I3 (in), 6 I4 (in), 7 I5 (in), 8 GND (power), 9 I6 (in), 10 I7 (in), 11 I8 (in), 12 I9 (in), 13 I10 (in), 14 GND (power), 15 GND (power), 16 ~{OE} (in), 17 I11 (in), 18 IO4 (io), 19 IO3 (io), 20 Q4 (hiz), 21 Q3 (hiz), 22 GND (power), 23 Q2 (hiz), 24 Q1 (hiz), 25 IO2 (io), 26 IO1 (io), 27 I12 (in), 28 VCC (power)

## PAL20R4-5JC
designator U?
24-Pin Medium PAL; Published: 15-Apr-2002; LatestRevisionDate: 04-Mar-2005; LatestRevisionNote: Stylized 3D Model Added.; DatasheetVersion: 1991; PackageVersion: 2000; PackageReference: J24F; Publisher: Altium Limited; PackageDescription: DIP; 24 Leads; Row Spacing 7.62 mm; Pitch 2.54 mm; Code_JEDEC: MS-001-AF; ComponentLink1Description: Manufacturer Link; ComponentLink1URL: http://www.national.com/
footprint J24F (DIP; 24 Leads; Row Spacing 7.62 mm; Pitch 2.54 mm)
3D model J24F (DIP; 24 Leads; Row Spacing 7.62 mm; Pitch 2.54 mm)
pins: 1 CLK (in), 2 I1 (in), 3 I2 (in), 4 I3 (in), 5 I4 (in), 6 I5 (in), 7 I6 (in), 8 I7 (in), 9 I8 (in), 10 I9 (in), 11 I10 (in), 12 GND (power), 13 ~{OE} (in), 14 I11 (in), 15 IO4 (io), 16 IO3 (io), 17 Q4 (hiz), 18 Q3 (hiz), 19 Q2 (hiz), 20 Q1 (hiz), 21 IO2 (io), 22 IO1 (io), 23 I12 (in), 24 VCC (power)

## PAL20R4-5JM
designator U?
24-Pin Medium PAL; Published: 15-Apr-2002; LatestRevisionDate: 04-Mar-2005; LatestRevisionNote: Stylized 3D Model Added.; DatasheetVersion: 1991; PackageVersion: 2000; PackageReference: J24F; Publisher: Altium Limited; PackageDescription: DIP; 24 Leads; Row Spacing 7.62 mm; Pitch 2.54 mm; Code_JEDEC: MS-001-AF; ComponentLink1Description: Manufacturer Link; ComponentLink1URL: http://www.national.com/
footprint J24F (DIP; 24 Leads; Row Spacing 7.62 mm; Pitch 2.54 mm)
3D model J24F (DIP; 24 Leads; Row Spacing 7.62 mm; Pitch 2.54 mm)
pins: 1 CLK (in), 2 I1 (in), 3 I2 (in), 4 I3 (in), 5 I4 (in), 6 I5 (in), 7 I6 (in), 8 I7 (in), 9 I8 (in), 10 I9 (in), 11 I10 (in), 12 GND (power), 13 ~{OE} (in), 14 I11 (in), 15 IO4 (io), 16 IO3 (io), 17 Q4 (hiz), 18 Q3 (hiz), 19 Q2 (hiz), 20 Q1 (hiz), 21 IO2 (io), 22 IO1 (io), 23 I12 (in), 24 VCC (power)

## PAL20R4-5NC
designator U?
24-Pin Medium PAL; Published: 15-Apr-2002; LatestRevisionDate: 04-Mar-2005; LatestRevisionNote: Stylized 3D Model Added.; DatasheetVersion: 1991; PackageVersion: 2000; PackageReference: N24C; Publisher: Altium Limited; PackageDescription: DIP; 24 Leads; Row Spacing 7.62 mm; Pitch 2.54 mm; Code_JEDEC: MS-001-AF; ComponentLink1Description: Manufacturer Link; ComponentLink1URL: http://www.national.com/
footprint N24C (DIP; 24 Leads; Row Spacing 7.62 mm; Pitch 2.54 mm)
3D model J24F (DIP; 24 Leads; Row Spacing 7.62 mm; Pitch 2.54 mm)
pins: 1 CLK (in), 2 I1 (in), 3 I2 (in), 4 I3 (in), 5 I4 (in), 6 I5 (in), 7 I6 (in), 8 I7 (in), 9 I8 (in), 10 I9 (in), 11 I10 (in), 12 GND (power), 13 ~{OE} (in), 14 I11 (in), 15 IO4 (io), 16 IO3 (io), 17 Q4 (hiz), 18 Q3 (hiz), 19 Q2 (hiz), 20 Q1 (hiz), 21 IO2 (io), 22 IO1 (io), 23 I12 (in), 24 VCC (power)

## PAL20R4-5NM
designator U?
24-Pin Medium PAL; Published: 15-Apr-2002; LatestRevisionDate: 04-Mar-2005; LatestRevisionNote: Stylized 3D Model Added.; DatasheetVersion: 1991; PackageVersion: 2000; PackageReference: N24C; Publisher: Altium Limited; PackageDescription: DIP; 24 Leads; Row Spacing 7.62 mm; Pitch 2.54 mm; Code_JEDEC: MS-001-AF; ComponentLink1Description: Manufacturer Link; ComponentLink1URL: http://www.national.com/
footprint N24C (DIP; 24 Leads; Row Spacing 7.62 mm; Pitch 2.54 mm)
3D model J24F (DIP; 24 Leads; Row Spacing 7.62 mm; Pitch 2.54 mm)
pins: 1 CLK (in), 2 I1 (in), 3 I2 (in), 4 I3 (in), 5 I4 (in), 6 I5 (in), 7 I6 (in), 8 I7 (in), 9 I8 (in), 10 I9 (in), 11 I10 (in), 12 GND (power), 13 ~{OE} (in), 14 I11 (in), 15 IO4 (io), 16 IO3 (io), 17 Q4 (hiz), 18 Q3 (hiz), 19 Q2 (hiz), 20 Q1 (hiz), 21 IO2 (io), 22 IO1 (io), 23 I12 (in), 24 VCC (power)

## PAL20R4-7JC
designator U?
24-Pin Medium PAL; Published: 15-Apr-2002; LatestRevisionDate: 04-Mar-2005; LatestRevisionNote: Stylized 3D Model Added.; DatasheetVersion: 1991; PackageVersion: 2000; PackageReference: J24F; Publisher: Altium Limited; PackageDescription: DIP; 24 Leads; Row Spacing 7.62 mm; Pitch 2.54 mm; Code_JEDEC: MS-001-AF; ComponentLink1Description: Manufacturer Link; ComponentLink1URL: http://www.national.com/
footprint J24F (DIP; 24 Leads; Row Spacing 7.62 mm; Pitch 2.54 mm)
3D model J24F (DIP; 24 Leads; Row Spacing 7.62 mm; Pitch 2.54 mm)
pins: 1 CLK (in), 2 I1 (in), 3 I2 (in), 4 I3 (in), 5 I4 (in), 6 I5 (in), 7 I6 (in), 8 I7 (in), 9 I8 (in), 10 I9 (in), 11 I10 (in), 12 GND (power), 13 ~{OE} (in), 14 I11 (in), 15 IO4 (io), 16 IO3 (io), 17 Q4 (hiz), 18 Q3 (hiz), 19 Q2 (hiz), 20 Q1 (hiz), 21 IO2 (io), 22 IO1 (io), 23 I12 (in), 24 VCC (power)

## PAL20R4-7JM
designator U?
24-Pin Medium PAL; Published: 15-Apr-2002; LatestRevisionDate: 04-Mar-2005; LatestRevisionNote: Stylized 3D Model Added.; DatasheetVersion: 1991; PackageVersion: 2000; PackageReference: J24F; Publisher: Altium Limited; PackageDescription: DIP; 24 Leads; Row Spacing 7.62 mm; Pitch 2.54 mm; Code_JEDEC: MS-001-AF; ComponentLink1Description: Manufacturer Link; ComponentLink1URL: http://www.national.com/
footprint J24F (DIP; 24 Leads; Row Spacing 7.62 mm; Pitch 2.54 mm)
3D model J24F (DIP; 24 Leads; Row Spacing 7.62 mm; Pitch 2.54 mm)
pins: 1 CLK (in), 2 I1 (in), 3 I2 (in), 4 I3 (in), 5 I4 (in), 6 I5 (in), 7 I6 (in), 8 I7 (in), 9 I8 (in), 10 I9 (in), 11 I10 (in), 12 GND (power), 13 ~{OE} (in), 14 I11 (in), 15 IO4 (io), 16 IO3 (io), 17 Q4 (hiz), 18 Q3 (hiz), 19 Q2 (hiz), 20 Q1 (hiz), 21 IO2 (io), 22 IO1 (io), 23 I12 (in), 24 VCC (power)

## PAL20R4-7NC
designator U?
24-Pin Medium PAL; Published: 15-Apr-2002; LatestRevisionDate: 04-Mar-2005; LatestRevisionNote: Stylized 3D Model Added.; DatasheetVersion: 1991; PackageVersion: 2000; PackageReference: N24C; Publisher: Altium Limited; PackageDescription: DIP; 24 Leads; Row Spacing 7.62 mm; Pitch 2.54 mm; Code_JEDEC: MS-001-AF; ComponentLink1Description: Manufacturer Link; ComponentLink1URL: http://www.national.com/
footprint N24C (DIP; 24 Leads; Row Spacing 7.62 mm; Pitch 2.54 mm)
3D model J24F (DIP; 24 Leads; Row Spacing 7.62 mm; Pitch 2.54 mm)
pins: 1 CLK (in), 2 I1 (in), 3 I2 (in), 4 I3 (in), 5 I4 (in), 6 I5 (in), 7 I6 (in), 8 I7 (in), 9 I8 (in), 10 I9 (in), 11 I10 (in), 12 GND (power), 13 ~{OE} (in), 14 I11 (in), 15 IO4 (io), 16 IO3 (io), 17 Q4 (hiz), 18 Q3 (hiz), 19 Q2 (hiz), 20 Q1 (hiz), 21 IO2 (io), 22 IO1 (io), 23 I12 (in), 24 VCC (power)

## PAL20R4-7NM
designator U?
24-Pin Medium PAL; Published: 15-Apr-2002; LatestRevisionDate: 04-Mar-2005; LatestRevisionNote: Stylized 3D Model Added.; DatasheetVersion: 1991; PackageVersion: 2000; PackageReference: N24C; Publisher: Altium Limited; PackageDescription: DIP; 24 Leads; Row Spacing 7.62 mm; Pitch 2.54 mm; Code_JEDEC: MS-001-AF; ComponentLink1Description: Manufacturer Link; ComponentLink1URL: http://www.national.com/
footprint N24C (DIP; 24 Leads; Row Spacing 7.62 mm; Pitch 2.54 mm)
3D model J24F (DIP; 24 Leads; Row Spacing 7.62 mm; Pitch 2.54 mm)
pins: 1 CLK (in), 2 I1 (in), 3 I2 (in), 4 I3 (in), 5 I4 (in), 6 I5 (in), 7 I6 (in), 8 I7 (in), 9 I8 (in), 10 I9 (in), 11 I10 (in), 12 GND (power), 13 ~{OE} (in), 14 I11 (in), 15 IO4 (io), 16 IO3 (io), 17 Q4 (hiz), 18 Q3 (hiz), 19 Q2 (hiz), 20 Q1 (hiz), 21 IO2 (io), 22 IO1 (io), 23 I12 (in), 24 VCC (power)

## PAL20R6-4VC
designator U?
28-Pin Medium PAL; Published: 15-Apr-2002; LatestRevisionDate: 13-Apr-2006; LatestRevisionNote: IPC-7351 Footprint Added.; DatasheetVersion: 1991; PackageVersion: 2000; PackageReference: V28A; Publisher: Altium Limited; PackageDescription: 28-Pin Leaded Chip Carrier 1.27 mm Pitch; Code_IPC: PLCC-28; ComponentLink1Description: Manufacturer Link; ComponentLink1URL: http://www.national.com/
footprint V28A_N (Leaded Chip Carrier, 28-Leads, Body 11.5x11.5mm, Pitch 1.27mm, IPC Medium Density)
footprint V28A_L (Leaded Chip Carrier, 28-Leads, Body 11.5x11.5mm, Pitch 1.27mm, IPC High Density)
footprint V28A_M (Leaded Chip Carrier, 28-Leads, Body 11.5x11.5mm, Pitch 1.27mm, IPC Low Density)
3D model PAL20R6-4-V28A (28-Pin Leaded Chip Carrier 1.27 mm Pitch)
pins: 1 VCC (power), 2 CLK (in), 3 I1 (in), 4 I2 (in), 5 I3 (in), 6 I4 (in), 7 I5 (in), 8 GND (power), 9 I6 (in), 10 I7 (in), 11 I8 (in), 12 I9 (in), 13 I10 (in), 14 GND (power), 15 GND (power), 16 ~{OE} (in), 17 I11 (in), 18 IO2 (io), 19 Q6 (hiz), 20 Q5 (hiz), 21 Q4 (hiz), 22 GND (power), 23 Q3 (hiz), 24 Q2 (hiz), 25 Q1 (hiz), 26 IO1 (io), 27 I12 (in), 28 VCC (power)

## PAL20R6-4VM
designator U?
28-Pin Medium PAL; Published: 15-Apr-2002; LatestRevisionDate: 13-Apr-2006; LatestRevisionNote: IPC-7351 Footprint Added.; DatasheetVersion: 1991; PackageVersion: 2000; PackageReference: V28A; Publisher: Altium Limited; PackageDescription: 28-Pin Leaded Chip Carrier 1.27 mm Pitch; Code_IPC: PLCC-28; ComponentLink1Description: Manufacturer Link; ComponentLink1URL: http://www.national.com/
footprint V28A_N (Leaded Chip Carrier, 28-Leads, Body 11.5x11.5mm, Pitch 1.27mm, IPC Medium Density)
footprint V28A_L (Leaded Chip Carrier, 28-Leads, Body 11.5x11.5mm, Pitch 1.27mm, IPC High Density)
footprint V28A_M (Leaded Chip Carrier, 28-Leads, Body 11.5x11.5mm, Pitch 1.27mm, IPC Low Density)
3D model PAL20R6-4-V28A (28-Pin Leaded Chip Carrier 1.27 mm Pitch)
pins: 1 VCC (power), 2 CLK (in), 3 I1 (in), 4 I2 (in), 5 I3 (in), 6 I4 (in), 7 I5 (in), 8 GND (power), 9 I6 (in), 10 I7 (in), 11 I8 (in), 12 I9 (in), 13 I10 (in), 14 GND (power), 15 GND (power), 16 ~{OE} (in), 17 I11 (in), 18 IO2 (io), 19 Q6 (hiz), 20 Q5 (hiz), 21 Q4 (hiz), 22 GND (power), 23 Q3 (hiz), 24 Q2 (hiz), 25 Q1 (hiz), 26 IO1 (io), 27 I12 (in), 28 VCC (power)

## PAL20R6-5JC
designator U?
24-Pin Medium PAL; Published: 15-Apr-2002; LatestRevisionDate: 04-Mar-2005; LatestRevisionNote: Stylized 3D Model Added.; DatasheetVersion: 1991; PackageVersion: 2000; PackageReference: J24F; Publisher: Altium Limited; PackageDescription: DIP; 24 Leads; Row Spacing 7.62 mm; Pitch 2.54 mm; Code_JEDEC: MS-001-AF; ComponentLink1Description: Manufacturer Link; ComponentLink1URL: http://www.national.com/
footprint J24F (DIP; 24 Leads; Row Spacing 7.62 mm; Pitch 2.54 mm)
3D model J24F (DIP; 24 Leads; Row Spacing 7.62 mm; Pitch 2.54 mm)
pins: 1 CLK (in), 2 I1 (in), 3 I2 (in), 4 I3 (in), 5 I4 (in), 6 I5 (in), 7 I6 (in), 8 I7 (in), 9 I8 (in), 10 I9 (in), 11 I10 (in), 12 GND (power), 13 ~{OE} (in), 14 I11 (in), 15 IO2 (io), 16 Q6 (hiz), 17 Q5 (hiz), 18 Q4 (hiz), 19 Q3 (hiz), 20 Q2 (hiz), 21 Q1 (hiz), 22 IO1 (io), 23 I12 (in), 24 VCC (power)

## PAL20R6-5JM
designator U?
24-Pin Medium PAL; Published: 15-Apr-2002; LatestRevisionDate: 04-Mar-2005; LatestRevisionNote: Stylized 3D Model Added.; DatasheetVersion: 1991; PackageVersion: 2000; PackageReference: J24F; Publisher: Altium Limited; PackageDescription: DIP; 24 Leads; Row Spacing 7.62 mm; Pitch 2.54 mm; Code_JEDEC: MS-001-AF; ComponentLink1Description: Manufacturer Link; ComponentLink1URL: http://www.national.com/
footprint J24F (DIP; 24 Leads; Row Spacing 7.62 mm; Pitch 2.54 mm)
3D model J24F (DIP; 24 Leads; Row Spacing 7.62 mm; Pitch 2.54 mm)
pins: 1 CLK (in), 2 I1 (in), 3 I2 (in), 4 I3 (in), 5 I4 (in), 6 I5 (in), 7 I6 (in), 8 I7 (in), 9 I8 (in), 10 I9 (in), 11 I10 (in), 12 GND (power), 13 ~{OE} (in), 14 I11 (in), 15 IO2 (io), 16 Q6 (hiz), 17 Q5 (hiz), 18 Q4 (hiz), 19 Q3 (hiz), 20 Q2 (hiz), 21 Q1 (hiz), 22 IO1 (io), 23 I12 (in), 24 VCC (power)

## PAL20R6-5NC
designator U?
24-Pin Medium PAL; Published: 15-Apr-2002; LatestRevisionDate: 04-Mar-2005; LatestRevisionNote: Stylized 3D Model Added.; DatasheetVersion: 1991; PackageVersion: 2000; PackageReference: N24C; Publisher: Altium Limited; PackageDescription: DIP; 24 Leads; Row Spacing 7.62 mm; Pitch 2.54 mm; Code_JEDEC: MS-001-AF; ComponentLink1Description: Manufacturer Link; ComponentLink1URL: http://www.national.com/
footprint N24C (DIP; 24 Leads; Row Spacing 7.62 mm; Pitch 2.54 mm)
3D model J24F (DIP; 24 Leads; Row Spacing 7.62 mm; Pitch 2.54 mm)
pins: 1 CLK (in), 2 I1 (in), 3 I2 (in), 4 I3 (in), 5 I4 (in), 6 I5 (in), 7 I6 (in), 8 I7 (in), 9 I8 (in), 10 I9 (in), 11 I10 (in), 12 GND (power), 13 ~{OE} (in), 14 I11 (in), 15 IO2 (io), 16 Q6 (hiz), 17 Q5 (hiz), 18 Q4 (hiz), 19 Q3 (hiz), 20 Q2 (hiz), 21 Q1 (hiz), 22 IO1 (io), 23 I12 (in), 24 VCC (power)

## PAL20R6-5NM
designator U?
24-Pin Medium PAL; Published: 15-Apr-2002; LatestRevisionDate: 04-Mar-2005; LatestRevisionNote: Stylized 3D Model Added.; DatasheetVersion: 1991; PackageVersion: 2000; PackageReference: N24C; Publisher: Altium Limited; PackageDescription: DIP; 24 Leads; Row Spacing 7.62 mm; Pitch 2.54 mm; Code_JEDEC: MS-001-AF; ComponentLink1Description: Manufacturer Link; ComponentLink1URL: http://www.national.com/
footprint N24C (DIP; 24 Leads; Row Spacing 7.62 mm; Pitch 2.54 mm)
3D model J24F (DIP; 24 Leads; Row Spacing 7.62 mm; Pitch 2.54 mm)
pins: 1 CLK (in), 2 I1 (in), 3 I2 (in), 4 I3 (in), 5 I4 (in), 6 I5 (in), 7 I6 (in), 8 I7 (in), 9 I8 (in), 10 I9 (in), 11 I10 (in), 12 GND (power), 13 ~{OE} (in), 14 I11 (in), 15 IO2 (io), 16 Q6 (hiz), 17 Q5 (hiz), 18 Q4 (hiz), 19 Q3 (hiz), 20 Q2 (hiz), 21 Q1 (hiz), 22 IO1 (io), 23 I12 (in), 24 VCC (power)

## PAL20R6-7JC
designator U?
24-Pin Medium PAL; Published: 15-Apr-2002; LatestRevisionDate: 04-Mar-2005; LatestRevisionNote: Stylized 3D Model Added.; DatasheetVersion: 1991; PackageVersion: 2000; PackageReference: J24F; Publisher: Altium Limited; PackageDescription: DIP; 24 Leads; Row Spacing 7.62 mm; Pitch 2.54 mm; Code_JEDEC: MS-001-AF; ComponentLink1Description: Manufacturer Link; ComponentLink1URL: http://www.national.com/
footprint J24F (DIP; 24 Leads; Row Spacing 7.62 mm; Pitch 2.54 mm)
3D model J24F (DIP; 24 Leads; Row Spacing 7.62 mm; Pitch 2.54 mm)
pins: 1 CLK (in), 2 I1 (in), 3 I2 (in), 4 I3 (in), 5 I4 (in), 6 I5 (in), 7 I6 (in), 8 I7 (in), 9 I8 (in), 10 I9 (in), 11 I10 (in), 12 GND (power), 13 ~{OE} (in), 14 I11 (in), 15 IO2 (io), 16 Q6 (hiz), 17 Q5 (hiz), 18 Q4 (hiz), 19 Q3 (hiz), 20 Q2 (hiz), 21 Q1 (hiz), 22 IO1 (io), 23 I12 (in), 24 VCC (power)

## PAL20R6-7JM
designator U?
24-Pin Medium PAL; Published: 15-Apr-2002; LatestRevisionDate: 04-Mar-2005; LatestRevisionNote: Stylized 3D Model Added.; DatasheetVersion: 1991; PackageVersion: 2000; PackageReference: J24F; Publisher: Altium Limited; PackageDescription: DIP; 24 Leads; Row Spacing 7.62 mm; Pitch 2.54 mm; Code_JEDEC: MS-001-AF; ComponentLink1Description: Manufacturer Link; ComponentLink1URL: http://www.national.com/
footprint J24F (DIP; 24 Leads; Row Spacing 7.62 mm; Pitch 2.54 mm)
3D model J24F (DIP; 24 Leads; Row Spacing 7.62 mm; Pitch 2.54 mm)
pins: 1 CLK (in), 2 I1 (in), 3 I2 (in), 4 I3 (in), 5 I4 (in), 6 I5 (in), 7 I6 (in), 8 I7 (in), 9 I8 (in), 10 I9 (in), 11 I10 (in), 12 GND (power), 13 ~{OE} (in), 14 I11 (in), 15 IO2 (io), 16 Q6 (hiz), 17 Q5 (hiz), 18 Q4 (hiz), 19 Q3 (hiz), 20 Q2 (hiz), 21 Q1 (hiz), 22 IO1 (io), 23 I12 (in), 24 VCC (power)

## PAL20R6-7NC
designator U?
24-Pin Medium PAL; Published: 15-Apr-2002; LatestRevisionDate: 04-Mar-2005; LatestRevisionNote: Stylized 3D Model Added.; DatasheetVersion: 1991; PackageVersion: 2000; PackageReference: N24C; Publisher: Altium Limited; PackageDescription: DIP; 24 Leads; Row Spacing 7.62 mm; Pitch 2.54 mm; Code_JEDEC: MS-001-AF; ComponentLink1Description: Manufacturer Link; ComponentLink1URL: http://www.national.com/
footprint N24C (DIP; 24 Leads; Row Spacing 7.62 mm; Pitch 2.54 mm)
3D model J24F (DIP; 24 Leads; Row Spacing 7.62 mm; Pitch 2.54 mm)
pins: 1 CLK (in), 2 I1 (in), 3 I2 (in), 4 I3 (in), 5 I4 (in), 6 I5 (in), 7 I6 (in), 8 I7 (in), 9 I8 (in), 10 I9 (in), 11 I10 (in), 12 GND (power), 13 ~{OE} (in), 14 I11 (in), 15 IO2 (io), 16 Q6 (hiz), 17 Q5 (hiz), 18 Q4 (hiz), 19 Q3 (hiz), 20 Q2 (hiz), 21 Q1 (hiz), 22 IO1 (io), 23 I12 (in), 24 VCC (power)

## PAL20R6-7NM
designator U?
24-Pin Medium PAL; Published: 15-Apr-2002; LatestRevisionDate: 04-Mar-2005; LatestRevisionNote: Stylized 3D Model Added.; DatasheetVersion: 1991; PackageVersion: 2000; PackageReference: N24C; Publisher: Altium Limited; PackageDescription: DIP; 24 Leads; Row Spacing 7.62 mm; Pitch 2.54 mm; Code_JEDEC: MS-001-AF; ComponentLink1Description: Manufacturer Link; ComponentLink1URL: http://www.national.com/
footprint N24C (DIP; 24 Leads; Row Spacing 7.62 mm; Pitch 2.54 mm)
3D model J24F (DIP; 24 Leads; Row Spacing 7.62 mm; Pitch 2.54 mm)
pins: 1 CLK (in), 2 I1 (in), 3 I2 (in), 4 I3 (in), 5 I4 (in), 6 I5 (in), 7 I6 (in), 8 I7 (in), 9 I8 (in), 10 I9 (in), 11 I10 (in), 12 GND (power), 13 ~{OE} (in), 14 I11 (in), 15 IO2 (io), 16 Q6 (hiz), 17 Q5 (hiz), 18 Q4 (hiz), 19 Q3 (hiz), 20 Q2 (hiz), 21 Q1 (hiz), 22 IO1 (io), 23 I12 (in), 24 VCC (power)

## PAL20R8-4VC
designator U?
28-Pin Medium PAL; Published: 15-Apr-2002; LatestRevisionDate: 13-Apr-2006; LatestRevisionNote: IPC-7351 Footprint Added.; DatasheetVersion: 1991; PackageVersion: 2000; PackageReference: V28A; Publisher: Altium Limited; PackageDescription: 28-Pin Leaded Chip Carrier 1.27 mm Pitch; Code_IPC: PLCC-28; ComponentLink1Description: Manufacturer Link; ComponentLink1URL: http://www.national.com/
footprint V28A_N (Leaded Chip Carrier, 28-Leads, Body 11.5x11.5mm, Pitch 1.27mm, IPC Medium Density)
footprint V28A_L (Leaded Chip Carrier, 28-Leads, Body 11.5x11.5mm, Pitch 1.27mm, IPC High Density)
footprint V28A_M (Leaded Chip Carrier, 28-Leads, Body 11.5x11.5mm, Pitch 1.27mm, IPC Low Density)
3D model PAL20R8-4-V28A (28-Pin Leaded Chip Carrier 1.27 mm Pitch)
pins: 1 VCC (power), 2 CLK (in), 3 I1 (in), 4 I2 (in), 5 I3 (in), 6 I4 (in), 7 I5 (in), 8 GND (power), 9 I6 (in), 10 I7 (in), 11 I8 (in), 12 I9 (in), 13 I10 (in), 14 GND (power), 15 GND (power), 16 ~{OE} (in), 17 I11 (in), 18 Q8 (hiz), 19 Q7 (hiz), 20 Q6 (hiz), 21 Q5 (hiz), 22 GND (power), 23 Q4 (hiz), 24 Q3 (hiz), 25 Q2 (hiz), 26 Q1 (hiz), 27 I12 (in), 28 VCC (power)

## PAL20R8-4VM
designator U?
28-Pin Medium PAL; Published: 15-Apr-2002; LatestRevisionDate: 13-Apr-2006; LatestRevisionNote: IPC-7351 Footprint Added.; DatasheetVersion: 1991; PackageVersion: 2000; PackageReference: V28A; Publisher: Altium Limited; PackageDescription: 28-Pin Leaded Chip Carrier 1.27 mm Pitch; Code_IPC: PLCC-28; ComponentLink1Description: Manufacturer Link; ComponentLink1URL: http://www.national.com/
footprint V28A_N (Leaded Chip Carrier, 28-Leads, Body 11.5x11.5mm, Pitch 1.27mm, IPC Medium Density)
footprint V28A_L (Leaded Chip Carrier, 28-Leads, Body 11.5x11.5mm, Pitch 1.27mm, IPC High Density)
footprint V28A_M (Leaded Chip Carrier, 28-Leads, Body 11.5x11.5mm, Pitch 1.27mm, IPC Low Density)
3D model PAL20R8-4-V28A (28-Pin Leaded Chip Carrier 1.27 mm Pitch)
pins: 1 VCC (power), 2 CLK (in), 3 I1 (in), 4 I2 (in), 5 I3 (in), 6 I4 (in), 7 I5 (in), 8 GND (power), 9 I6 (in), 10 I7 (in), 11 I8 (in), 12 I9 (in), 13 I10 (in), 14 GND (power), 15 GND (power), 16 ~{OE} (in), 17 I11 (in), 18 Q8 (hiz), 19 Q7 (hiz), 20 Q6 (hiz), 21 Q5 (hiz), 22 GND (power), 23 Q4 (hiz), 24 Q3 (hiz), 25 Q2 (hiz), 26 Q1 (hiz), 27 I12 (in), 28 VCC (power)